# EAGLE library part W25Q80DV (library psas_c3_team05)
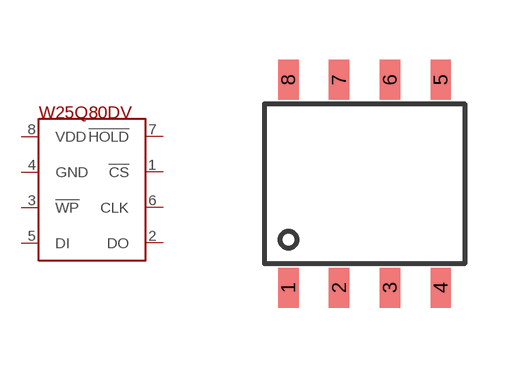
[diagram p17: symbol with the pads of W25Q80DV; footprint W25Q80DV]

Designator prefix -

## W25Q80DV  [W25Q80DV]
1  !CS
2  DO
3  !WP
4  GND
5  DI
6  CLK
7  !HOLD
8  VDD

## Footprint W25Q80DV (pad centres in mm)
smd 0.51 x 1: 1 -1.945,-2.568; 2 -0.675,-2.568; 3 0.595,-2.568; 4 1.865,-2.568; 5 1.865,2.632; 6 0.595,2.632; 7 -0.675,2.632; 8 -1.945,2.632